# EAGLE library part 61002418321 (library Wuerth_Elektronik_eiCan_Pin_&_Socked_Headers_v1.3)
WR-PHD 2.54mm SMT Pin Header, 24 Pins
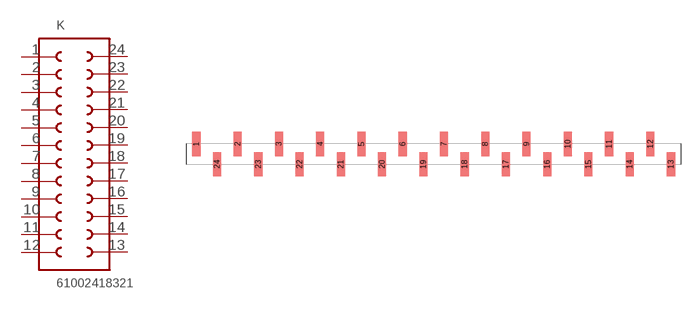
[diagram p86: symbol with the pads of 61002418321; footprint 61002418321]

Designator prefix K

## 61002418321  [61002418321]
1  1  pas
2  2  pas
3  3  pas
4  4  pas
5  5  pas
6  6  pas
7  7  pas
8  8  pas
9  9  pas
10  10  pas
11  11  pas
12  12  pas
13  13  pas
14  14  pas
15  15  pas
16  16  pas
17  17  pas
18  18  pas
19  19  pas
20  20  pas
21  21  pas
22  22  pas
23  23  pas
24  24  pas

## Footprint 61002418321 (pad centres in mm)
WR-PHD 2.54mm SMT Pin Header, 24 Pins
smd 1 x 3: 1 -29.21,1.25; 2 -24.13,1.25; 3 -19.05,1.25; 4 -13.97,1.25; 5 -8.89,1.25; 6 -3.81,1.25; 7 1.27,1.25; 8 6.35,1.25; 9 11.43,1.25; 10 16.51,1.25; 11 21.59,1.25; 12 26.67,1.25; 13 29.21,-1.25; 14 24.13,-1.25; 15 19.05,-1.25; 16 13.97,-1.25; 17 8.89,-1.25; 18 3.81,-1.25; 19 -1.27,-1.25; 20 -6.35,-1.25; 21 -11.43,-1.25; 22 -16.51,-1.25; 23 -21.59,-1.25; 24 -26.67,-1.25